# EAGLE library part MOLEX-53309-1029 (library 1-GTeel)
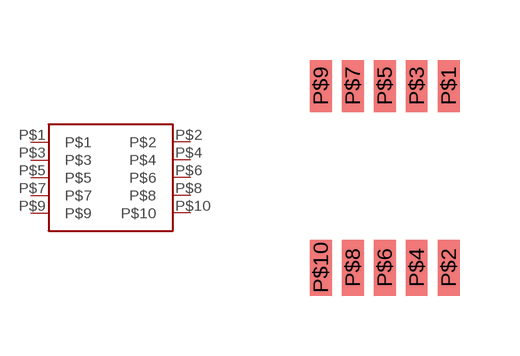
[diagram p1: symbol with the pads of MOLEX-53309-1029; footprint MOLEX-53309-1029]

Designator prefix -

## MOLEX-53309-1029  [MOLEX-53309-1029]
P$1  P$1
P$2  P$2
P$3  P$3
P$4  P$4
P$5  P$5
P$6  P$6
P$7  P$7
P$8  P$8
P$9  P$9
P$10  P$10

## Footprint MOLEX-53309-1029 (pad centres in mm)
smd 0.55 x 1.3: P$1 3.2,4.55; P$3 2.4,4.55; P$5 1.6,4.55; P$7 0.8,4.55; P$9 0,4.55
smd 0.55 x 1.4: P$2 3.2,0; P$4 2.4,0; P$6 1.6,0; P$8 0.8,0; P$10 0,0